# Altium schematic symbol library RC1206FR-07100RL.SchLib: 1 symbol
Pins are listed as number, name and electrical type; pins without a type are passive.

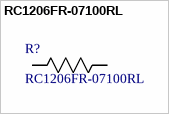
[diagram p0: symbol RC1206FR-07100RL]

## RC1206FR-07100RL
designator R?
No Description Available; Mfr_Name: Yageo; Copyright: Copyright (C) 2022 Ultra Librarian. All rights reserved.; Manufacturer_Part_Number: RC1206FR-07100RL; Digi-Key_Part_Number_1: 311-100FRCT-ND; Digi-Key_Part_Number_2: 311-100FRDKR-ND; Digi-Key_Part_Number_3: 311-100FRTR-ND; Digi-Key_Part_Number_4: 311-100FRTR-NDL; RefDes: RefDes; Type: DEV
footprint RC1206N_YAG
pins: 1, ?1